# EAGLE library part MCV11 (library J-HDR2.5mm)
MCV_0,5&11-G-2,5 [PHOENIX CONTACT,1881642] CONN HEADER SHROUDED 11POS 2.5MM FK-MC_0,5&11-ST-2,5 [PHOENIX CONTACT,1881419] CONN PLUG SPRING-CAGE 11POS 2.5MM
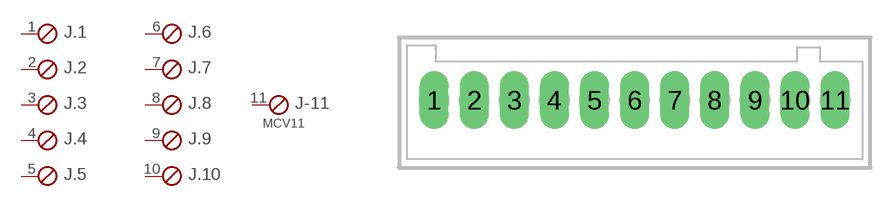
[diagram p3: symbol with the pads of MCV11; footprint MCV11]

Designator prefix J; gates .1=SKB .2=SKB .3=SKB .4=SKB .5=SKB .6=SKB .7=SKB .8=SKB .9=SKB .10=SKB -11=SKBV

## MCV11  [MCV11]
1  .1:1  pas
2  .2:1  pas
3  .3:1  pas
4  .4:1  pas
5  .5:1  pas
6  .6:1  pas
7  .7:1  pas
8  .8:1  pas
9  .9:1  pas
10  .10:1  pas
11  -11:1  pas

## Footprint MCV11 (pad centres in mm)
PHOENIX CONTACT MCV 0,5/11-G-2,5 PN: 1881642 Drill Size 3/64": .0469" (1.2mm)
drill 1.2 long: 1 0,0; 2 2.5,0; 3 5,0; 4 7.5,0; 5 10,0; 6 12.5,0; 7 15,0; 8 17.5,0; 9 20,0; 10 22.5,0; 11 25,0